# EAGLE library part AVR32UC3B0256 (library haptic-inu)
32-bit Microcontroller with 256K Bytes In-System Programmable Flash, 32K Bytes Internal High Speed SRAM Source: http://www.atmel.com/dyn/resources/prod_documents/doc32059.pdf
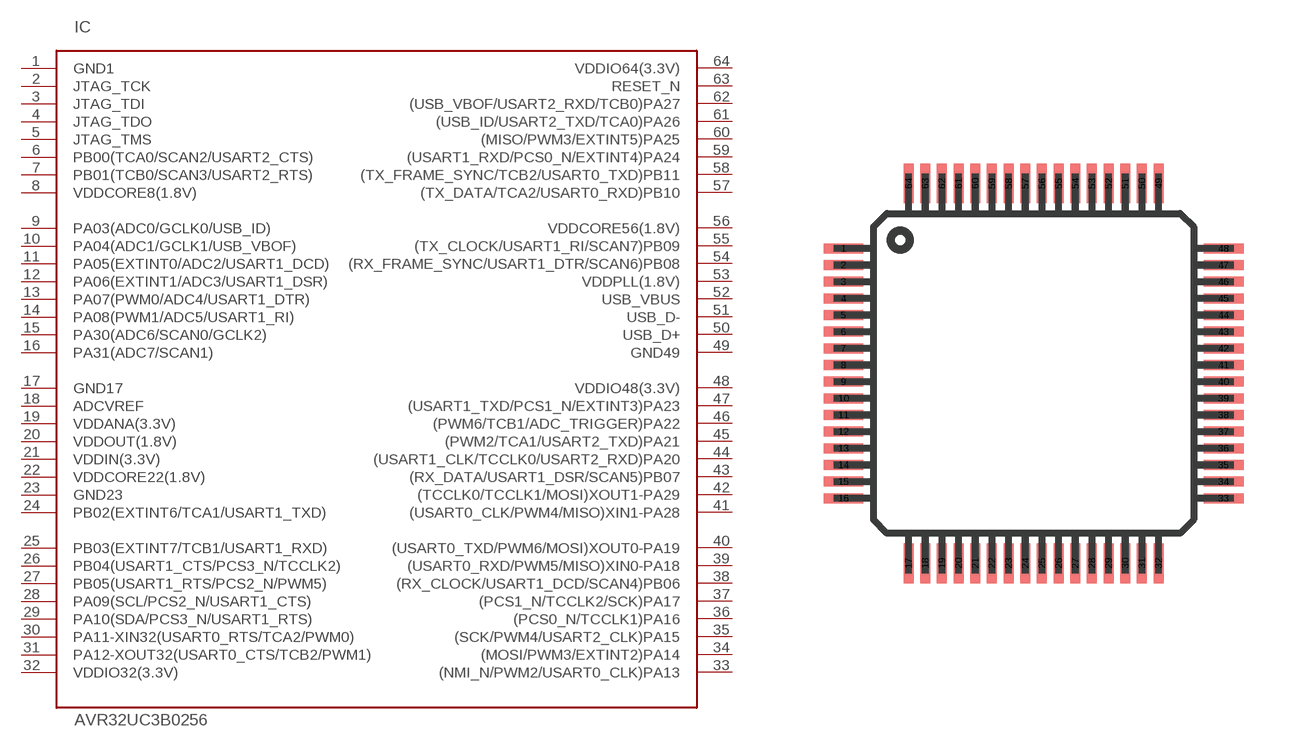
[diagram p0: symbol with the pads of TQFP64-10X10; footprint TQFP64-10X10]

Designator prefix IC

## AVR32UC3B0256TQFP-64(10X10)  [TQFP64-10X10]
1  GND1  pwr
2  JTAG_TCK  in
3  JTAG_TDI  in
4  JTAG_TDO  out
5  JTAG_TMS  in
6  PB00(TCA0/SCAN2/USART2_CTS)
7  PB01(TCB0/SCAN3/USART2_RTS)
8  VDDCORE8(1.8V)  pwr
9  PA03(ADC0/GCLK0/USB_ID)
10  PA04(ADC1/GCLK1/USB_VBOF)
11  PA05(EXTINT0/ADC2/USART1_DCD)
12  PA06(EXTINT1/ADC3/USART1_DSR)
13  PA07(PWM0/ADC4/USART1_DTR)
14  PA08(PWM1/ADC5/USART1_RI)
15  PA30(ADC6/SCAN0/GCLK2)
16  PA31(ADC7/SCAN1)
17  GND17  pwr
18  ADCVREF  in
19  VDDANA(3.3V)  pwr
20  VDDOUT(1.8V)  pwr
21  VDDIN(3.3V)  pwr
22  VDDCORE22(1.8V)  pwr
23  GND23  pwr
24  PB02(EXTINT6/TCA1/USART1_TXD)
25  PB03(EXTINT7/TCB1/USART1_RXD)
26  PB04(USART1_CTS/PCS3_N/TCCLK2)
27  PB05(USART1_RTS/PCS2_N/PWM5)
28  PA09(SCL/PCS2_N/USART1_CTS)
29  PA10(SDA/PCS3_N/USART1_RTS)
30  PA11-XIN32(USART0_RTS/TCA2/PWM0)
31  PA12-XOUT32(USART0_CTS/TCB2/PWM1)
32  VDDIO32(3.3V)  pwr
33  (NMI_N/PWM2/USART0_CLK)PA13
34  (MOSI/PWM3/EXTINT2)PA14
35  (SCK/PWM4/USART2_CLK)PA15
36  (PCS0_N/TCCLK1)PA16
37  (PCS1_N/TCCLK2/SCK)PA17
38  (RX_CLOCK/USART1_DCD/SCAN4)PB06
39  (USART0_RXD/PWM5/MISO)XIN0-PA18
40  (USART0_TXD/PWM6/MOSI)XOUT0-PA19
41  (USART0_CLK/PWM4/MISO)XIN1-PA28
42  (TCCLK0/TCCLK1/MOSI)XOUT1-PA29
43  (RX_DATA/USART1_DSR/SCAN5)PB07
44  (USART1_CLK/TCCLK0/USART2_RXD)PA20
45  (PWM2/TCA1/USART2_TXD)PA21
46  (PWM6/TCB1/ADC_TRIGGER)PA22
47  (USART1_TXD/PCS1_N/EXTINT3)PA23
48  VDDIO48(3.3V)  pwr
49  GND49  pwr
50  USB_D+
51  USB_D-
52  USB_VBUS  in
53  VDDPLL(1.8V)  pwr
54  (RX_FRAME_SYNC/USART1_DTR/SCAN6)PB08
55  (TX_CLOCK/USART1_RI/SCAN7)PB09
56  VDDCORE56(1.8V)  pwr
57  (TX_DATA/TCA2/USART0_RXD)PB10
58  (TX_FRAME_SYNC/TCB2/USART0_TXD)PB11
59  (USART1_RXD/PCS0_N/EXTINT4)PA24
60  (MISO/PWM3/EXTINT5)PA25
61  (USB_ID/USART2_TXD/TCA0)PA26
62  (USB_VBOF/USART2_RXD/TCB0)PA27
63  RESET_N
64  VDDIO64(3.3V)  pwr

## Footprint TQFP64-10X10 (pad centres in mm)
Thin Quad Flat Pack package type TQ
smd 1.2 x 0.3: 1 -5.7,3.75; 2 -5.7,3.25; 3 -5.7,2.75; 4 -5.7,2.25; 5 -5.7,1.75; 6 -5.7,1.25; 7 -5.7,0.75; 8 -5.7,0.25; 9 -5.7,-0.25; 10 -5.7,-0.75; 11 -5.7,-1.25; 12 -5.7,-1.75; 13 -5.7,-2.25; 14 -5.7,-2.75; 15 -5.7,-3.25; 16 -5.7,-3.75; 33 5.7,-3.75; 34 5.7,-3.25; 35 5.7,-2.75; 36 5.7,-2.25; 37 5.7,-1.75; 38 5.7,-1.25; 39 5.7,-0.75; 40 5.7,-0.25; 41 5.7,0.25; 42 5.7,0.75; 43 5.7,1.25; 44 5.7,1.75; 45 5.7,2.25; 46 5.7,2.75; 47 5.7,3.25; 48 5.7,3.75
smd 0.3 x 1.2: 17 -3.75,-5.7; 18 -3.25,-5.7; 19 -2.75,-5.7; 20 -2.25,-5.7; 21 -1.75,-5.7; 22 -1.25,-5.7; 23 -0.75,-5.7; 24 -0.25,-5.7; 25 0.25,-5.7; 26 0.75,-5.7; 27 1.25,-5.7; 28 1.75,-5.7; 29 2.25,-5.7; 30 2.75,-5.7; 31 3.25,-5.7; 32 3.75,-5.7; 49 3.75,5.7; 50 3.25,5.7; 51 2.75,5.7; 52 2.25,5.7; 53 1.75,5.7; 54 1.25,5.7; 55 0.75,5.7; 56 0.25,5.7; 57 -0.25,5.7; 58 -0.75,5.7; 59 -1.25,5.7; 60 -1.75,5.7; 61 -2.25,5.7; 62 -2.75,5.7; 63 -3.25,5.7; 64 -3.75,5.7